# Altium schematic symbol library ABM10-16.000MHZ-E20-T.Schlib: 1 symbol
Pins are listed as number, name and electrical type; pins without a type are passive.

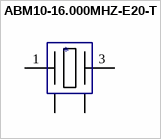
[diagram p0: symbol ABM10-16.000MHZ-E20-T]

## ABM10-16.000MHZ-E20-T
designator *, comment Xtal  (value not drawn)
XTAL SMT 2.5x2.0mm 16MHz
pins: 1, 2, 3, 4